# Altium footprint library PenguinPi_v2.PcbLib: 10 footprints
Each footprint in its own frame and in the unit in brackets; x right, y up, seen from the top. Pads: shape width x height; smd on the part's side, far side on the other; paste and mask are expansions set on the pad; w line width, h text height; cw(c..) or ccw(c..) is an arc to the next point about the centre after c.
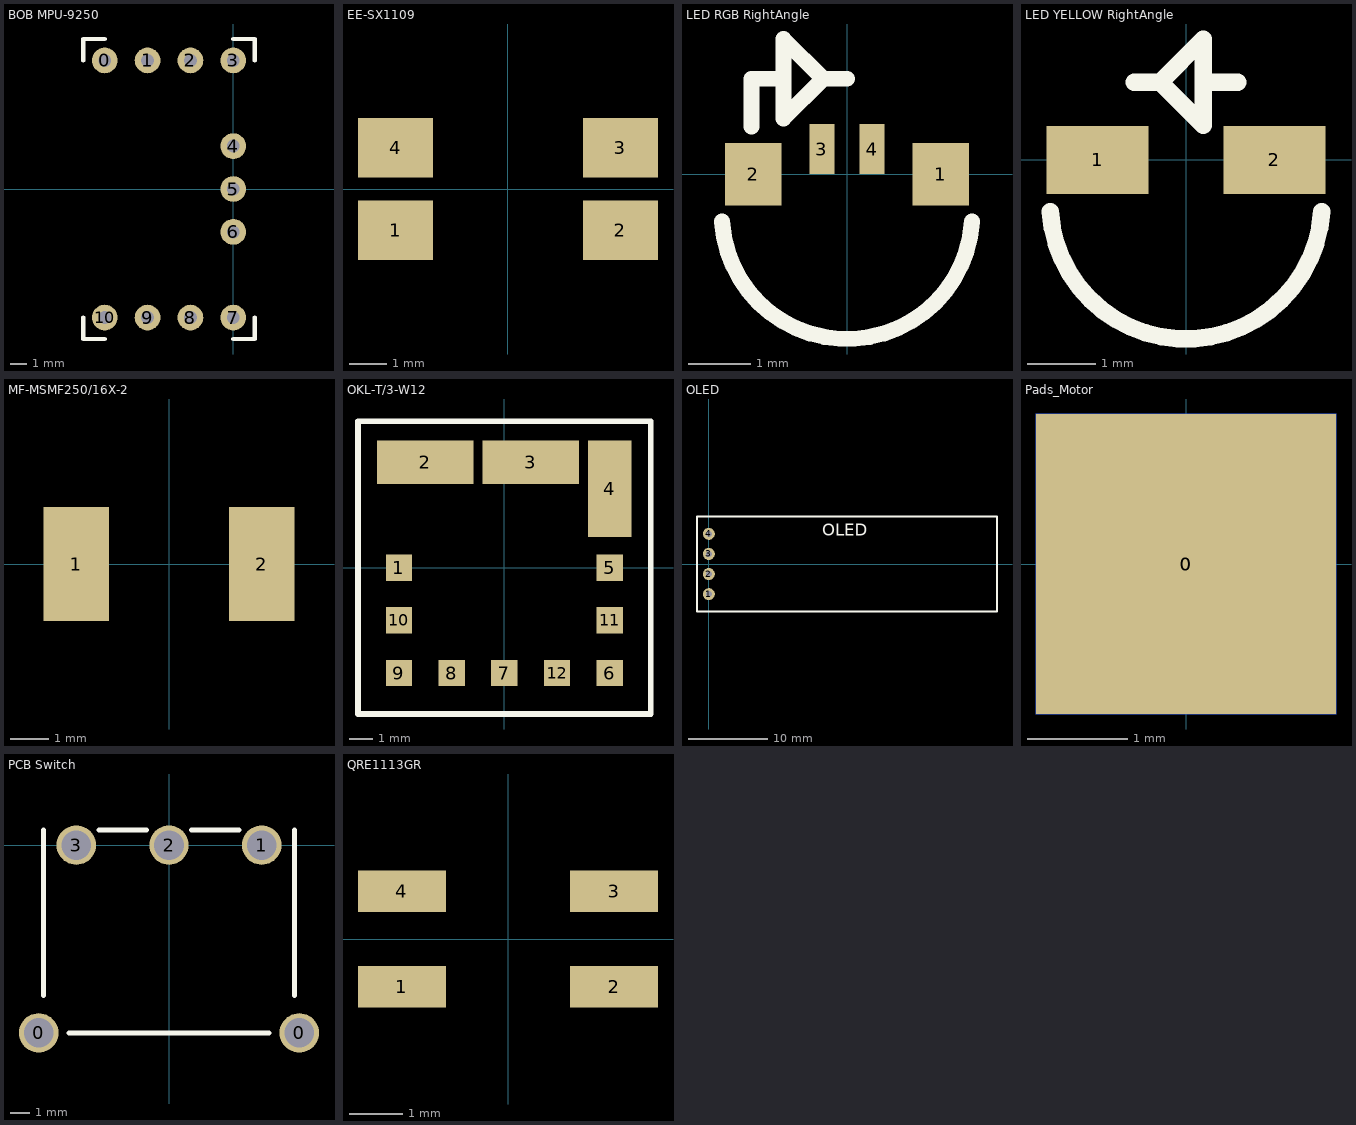
[diagram p0: the footprints below, top view; thin cyan lines are the x and y axes]

## BOB MPU-9250 [mil]
pads (11):
  round 60 hole 30: 0(-300,300) 1(-200,300) 2(-100,300) 3(0,300) 4(0,100) 5(0,0) 6(0,-100) 7(0,-300) 8(-100,-300) 9(-200,-300) 10(-300,-300)
Top Overlay:
  lines w10: -350,-300 -350,-350 -300,-350 ; -350,300 -350,350 -300,350 ; 0,-350 50,-350 50,-300 ; 0,350 50,350 50,300

## EE-SX1109 [mm] "PhotoInterrupter ( E14 1461616 )"
pads (4):
  rect 2x1.6 smd: 1(-3,-1.1) 2(3,-1.1) 3(3,1.1) 4(-3,1.1)

## LED RGB RightAngle [mm]
pads (4):
  rect 0.9x1 smd: 1(1.5,0) 2(-1.5,0)
  rect 0.4x0.8 smd: 3(-0.4,0.4) 4(0.4,0.4)
Top Overlay:
  lines w0.254: -1.996,-0.76 ccw(c0,-0.635) 1.996,-0.76 ; -1.524,0.762 -1.524,1.524 -1.016,1.524 ; 0,1.524 -0.381,1.524 ; -0.381,1.524 -1.016,0.889 -1.016,2.159 -0.381,1.524

## LED YELLOW RightAngle [mm]
pads (2):
  rect 1.5x1 smd: 1(-1.3,0) 2(1.3,0)
Top Overlay:
  lines w0.254: -1.996,-0.76 ccw(c0,-0.635) 1.996,-0.76 ; -0.762,1.143 -0.381,1.143 ; 0.254,1.143 0.762,1.143 ; -0.381,1.143 0.254,0.508 0.254,1.778 -0.381,1.143

## MF-MSMF250/16X-2 [mm] "SMD Fuse"
pads (2):
  rect 1.68x2.95 smd: 1(-2.39,0) 2(2.39,0)

## OKL-T/3-W12 [mil] "Murata Programmable Regulator"
pads (12):
  rect 45x45 smd: 1(-180,0) 5(180,0) 6(180,-180) 7(0,-180) 8(-90,-180) 9(-180,-180) 10(-180,-90) 11(180,-90) 12(90,-180)
  rect 165x75 smd: 2(-135,180) 3(45,180)
  rect 75x165 smd: 4(180,135)
Top Overlay:
  lines w10: -250,-250 -250,250 250,250 250,-250 -250,-250

## OLED [mil]
pads (4):
  round 60 hole 30: 1(0,-150) 2(0,-50) 3(0,50) 4(0,150)
Top Overlay:
  lines w10: -59.06,-236.22 -59.06,236.22 1437.01,236.22 1437.01,-236.22 -59.06,-236.22
  text "OLED" at 565,140 h60

## Pads_Motor [mm]
pads (2):
  rect 3x3 smd: 0(0,0)
  rect 3x3 smd far side: 0(0,0)

## PCB Switch [mm] "1101M2S3ABE2"
pads (5):
  round 2 hole 1.5: 0(-6.604,-9.525) 0(6.604,-9.525) 1(4.699,0) 2(0,0) 3(-4.699,0)
Top Overlay:
  lines w0.254: -6.35,-7.62 -6.35,0.762 ; -5.08,-9.525 5.08,-9.525 ; -3.556,0.762 -1.143,0.762 ; 1.143,0.762 3.556,0.762 ; 6.35,-7.62 6.35,0.762

## QRE1113GR [mm] "Digikey QRE1113GRCT-ND"
pads (4):
  rect 1.66x0.79 smd: 1(-2,-0.9) 2(2,-0.9) 3(2,0.9) 4(-2,0.9)